# Altium footprint library RPSLib_Mechanical.PcbLib: 2 footprints
Each footprint in its own frame and in the unit in brackets; x right, y up, seen from the top. Pads: shape width x height; smd on the part's side, far side on the other; paste and mask are expansions set on the pad; w line width, h text height; cw(c..) or ccw(c..) is an arc to the next point about the centre after c.
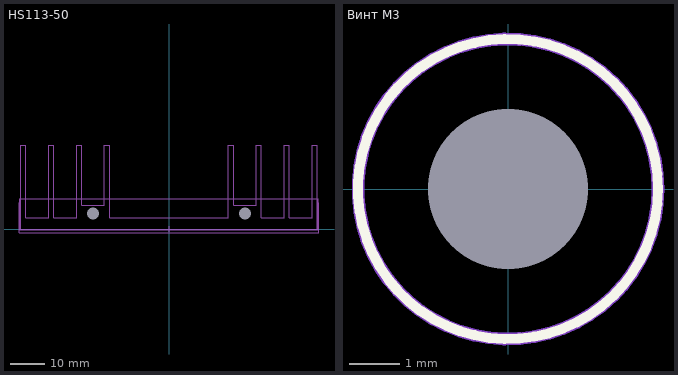
[diagram p0: the footprints below, top view; thin cyan lines are the x and y axes]

## HS113-50 [mm] "Радиатор 50х85х24 мм, 5.8 дюйм*градус/Вт"
height 50
pads (2):
  round 2 hole 3.5 unplated mask+0.07: MH(-21.75,4.5) MH(21.75,4.5)
Mechanical 1:
  circle w0.1: c21.75,4.5 r1.25
  circle w0.1: c-21.75,4.5 r1.25
  lines w0.1: -42.75,-0.25 42.75,-0.25 42.75,8.75 -42.75,8.75 -42.75,-0.25
Mechanical 13:
  circle w0.1: c21.75,4.5 r1.25
  circle w0.1: c-21.75,4.5 r1.25
  lines w0.1: -42.5,0 -42.5,24 -41,24 -41,3.3 -34.5,3.3 -34.5,24 -33,24 -33,3.3 -26.5,3.3 -26.5,24 -25,24 -25,6.8 -18.5,6.8 -18.5,24 -17,24 -17,3.3 17,3.3 17,24 18.5,24 18.5,6.8 25,6.8 25,24 26.5,24 26.5,3.3 33,3.3 33,24 34.5,24 34.5,3.3 41,3.3 41,24 42.5,24 42.5,0 -42.5,0
Mechanical 15:
  lines w0.1: -43,7.5 -43,-1 43,-1 43,7.5 ; -0.75,0 0.75,0 ; 0,-0.75 0,0.75
3D body "Радиатор HS 113-50 _ HS 113-50.stp": height 50, standoff 0, extent -42.5,0 42.5,24

## Винт М3 [mm]
pads (1):
  round 0 hole 3.2 unplated mask+0.07: mh2(0,0)
Top Layer keep-out:
  circle w0.254: c0,0 r3
Bottom Layer keep-out:
  circle w0.254: c0,0 r3
Top Overlay:
  circle w0.2: c0,0 r3
Mechanical 15:
  circle w0.1: c0,0 r3
  lines w0.2: -1.25,0 1.25,0 ; 0,-1.25 0,1.25